# Altium schematic symbol library thermocouple_connector.SchLib: 1 symbol
Pins are listed as number, name and electrical type; pins without a type are passive.

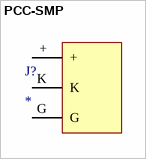
[diagram p0: symbol PCC-SMP]

## PCC-SMP
designator J?
THERMOCOUPLE CONNECTOR
footprint PCC-SMP
pins: +, G, K